# Altium integrated library NSC MiscPower.IntLib: 1417 symbols (part 12 of 39)
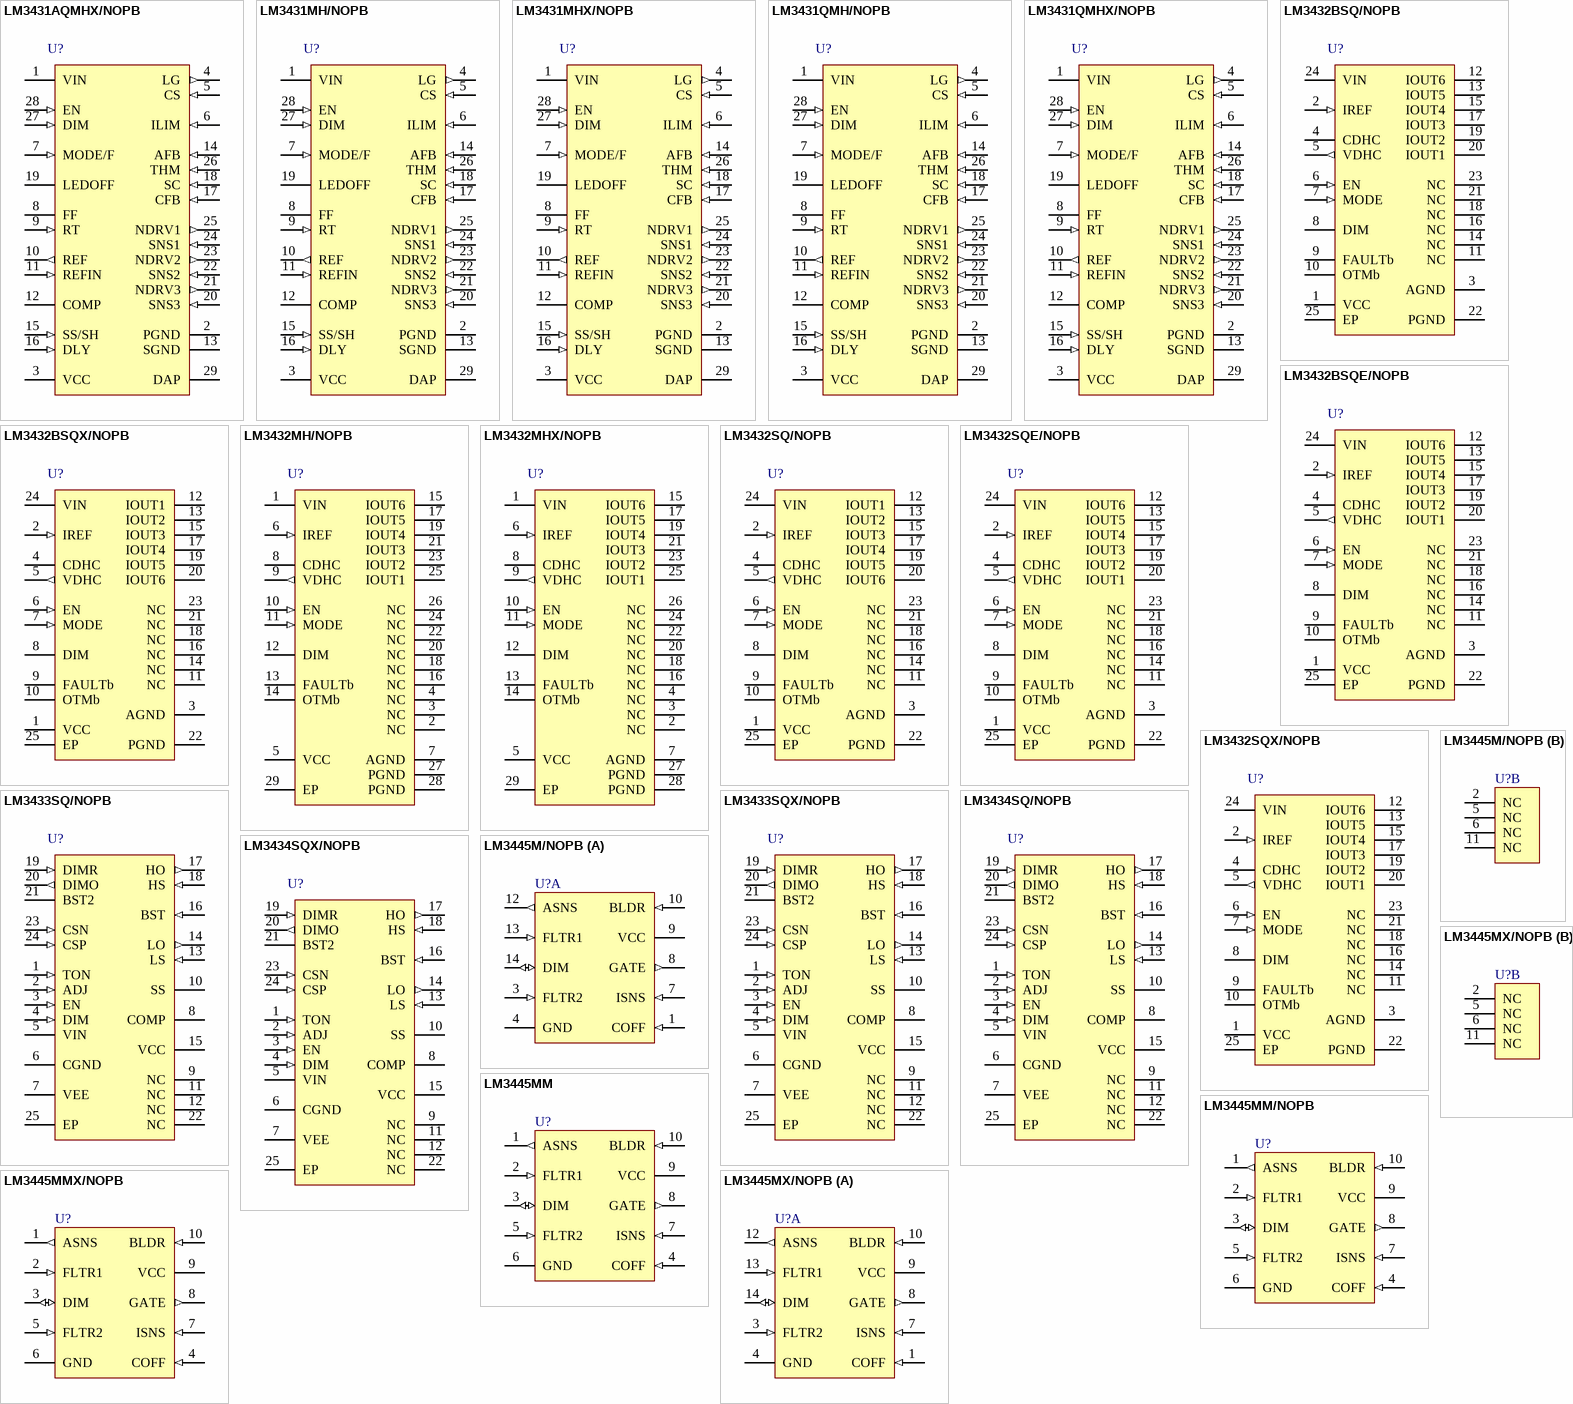
[diagram p62: symbols LM3431AQMHX/NOPB to LM3445MX/NOPB]

## LM3432SQ/NOPB
designator U?
6-Channel Current Regulator for LED Backlight Application, 24-pin LLP, Pb-Free; PartNumber: LM3432SQ/NOPB; Manufacturer: National Semiconductor; PackageTopMarking: NS*UZXYTT*L3432SQ; PowerWise: N; CompType: MiscPower; Published: 1-Mar-2010; DatasheetVersion: May-2008; PackageVersion: revA, Oct-2003; PackageReference: SQA24B; Publisher: Altium Limited; PackageDescription: LLP, Plastic, Quad, 5 x 4 x 0.8mm Body, 24 Lead, 0.5mm Pitch, No Pullback; Supplier 1: Digi-Key; Supplier Part Number 1: LM3432SQTR-ND; Supplier 2: Digi-Key; Supplier Part Number 2: LM3432SQCT-ND; Supplier 3: Digi-Key; Supplier Part Number 3: LM3432SQDKR-ND; Supplier 4: Farnell; Supplier Part Number 4: 1364447; RoHS: Y; PinCount: 24; Code_JEDEC: MO-220-WGHD-1; ComponentLink1Description: LM3432 Datasheet; ComponentLink1URL: http://www.national.com/ds/LM/LM3432.pdf; ComponentLink2Description: LM3432 Web Page; ComponentLink2URL: http://www.national.com/pf/LM/LM3432.html; ComponentLink3Description: SQA24B Package Page; ComponentLink3URL: http://www.national.com/packaging/folders/sqa24b.html
footprint SQA24B (QFN, 24-Leads, Body 5x4mm, Pitch 0.5mm, NSC Recommended)
pins: 1 VCC (power), 2 IREF (in), 3 AGND (power), 4 CDHC, 5 VDHC (out), 6 EN (in), 7 MODE (in), 8 DIM, 9 FAULTb (oc), 10 OTMb (oc), 11 NC, 12 IOUT1 (oc), 13 IOUT2 (oc), 14 NC, 15 IOUT3 (oc), 16 NC, 17 IOUT4 (oc), 18 NC, 19 IOUT5 (oc), 20 IOUT6 (oc), 21 NC, 22 PGND (power), 23 NC, 24 VIN (power), 25 EP (power)

## LM3432SQE/NOPB
designator U?
6-Channel Current Regulator for LED Backlight Application, 24-pin LLP, Pb-Free; PartNumber: LM3432SQE/NOPB; Manufacturer: National Semiconductor; PackageTopMarking: NS*UZXYTT*L3432SQ; PowerWise: N; CompType: MiscPower; Published: 1-Mar-2010; DatasheetVersion: May-2008; PackageVersion: revA, Oct-2003; PackageReference: SQA24B; Publisher: Altium Limited; PackageDescription: LLP, Plastic, Quad, 5 x 4 x 0.8mm Body, 24 Lead, 0.5mm Pitch, No Pullback; Supplier 1: Digi-Key; Supplier Part Number 1: LM3432SQE-ND; RoHS: Y; PinCount: 24; Code_JEDEC: MO-220-WGHD-1; ComponentLink1Description: LM3432 Datasheet; ComponentLink1URL: http://www.national.com/ds/LM/LM3432.pdf; ComponentLink2Description: LM3432 Web Page; ComponentLink2URL: http://www.national.com/pf/LM/LM3432.html; ComponentLink3Description: SQA24B Package Page; ComponentLink3URL: http://www.national.com/packaging/folders/sqa24b.html
footprint SQA24B (QFN, 24-Leads, Body 5x4mm, Pitch 0.5mm, NSC Recommended)
pins: 1 VCC (power), 2 IREF (in), 3 AGND (power), 4 CDHC, 5 VDHC (out), 6 EN (in), 7 MODE (in), 8 DIM, 9 FAULTb (oc), 10 OTMb (oc), 11 NC, 12 IOUT6 (oc), 13 IOUT5 (oc), 14 NC, 15 IOUT4 (oc), 16 NC, 17 IOUT3 (oc), 18 NC, 19 IOUT2 (oc), 20 IOUT1 (oc), 21 NC, 22 PGND (power), 23 NC, 24 VIN (power), 25 EP (power)

## LM3432SQX/NOPB
designator U?
6-Channel Current Regulator for LED Backlight Application, 24-pin LLP, Pb-Free; PartNumber: LM3432SQX/NOPB; Manufacturer: National Semiconductor; PackageTopMarking: NS*UZXYTT*L3432SQ; PowerWise: N; CompType: MiscPower; Published: 1-Mar-2010; DatasheetVersion: May-2008; PackageVersion: revA, Oct-2003; PackageReference: SQA24B; Publisher: Altium Limited; PackageDescription: LLP, Plastic, Quad, 5 x 4 x 0.8mm Body, 24 Lead, 0.5mm Pitch, No Pullback; Supplier 1: Digi-Key; Supplier Part Number 1: LM3432SQX-ND; RoHS: Y; PinCount: 24; Code_JEDEC: MO-220-WGHD-1; ComponentLink1Description: LM3432 Datasheet; ComponentLink1URL: http://www.national.com/ds/LM/LM3432.pdf; ComponentLink2Description: LM3432 Web Page; ComponentLink2URL: http://www.national.com/pf/LM/LM3432.html; ComponentLink3Description: SQA24B Package Page; ComponentLink3URL: http://www.national.com/packaging/folders/sqa24b.html
footprint SQA24B (QFN, 24-Leads, Body 5x4mm, Pitch 0.5mm, NSC Recommended)
pins: 1 VCC (power), 2 IREF (in), 3 AGND (power), 4 CDHC, 5 VDHC (out), 6 EN (in), 7 MODE (in), 8 DIM, 9 FAULTb (oc), 10 OTMb (oc), 11 NC, 12 IOUT6 (oc), 13 IOUT5 (oc), 14 NC, 15 IOUT4 (oc), 16 NC, 17 IOUT3 (oc), 18 NC, 19 IOUT2 (oc), 20 IOUT1 (oc), 21 NC, 22 PGND (power), 23 NC, 24 VIN (power), 25 EP (power)

## LM3433SQ/NOPB
designator U?
Common Anode Capable High Brightness LED Driver with High Frequency Dimming, 24-pin LLP, Pb-Free; PartNumber: LM3433SQ/NOPB; Manufacturer: National Semiconductor; PackageTopMarking: NS*UZXYTT*L3433SQ; PowerWise: Y; CompType: MiscPower; Published: 1-Mar-2010; DatasheetVersion: Mar-2008; PackageVersion: revB, Aug-2003; PackageReference: SQA24A; Publisher: Altium Limited; PackageDescription: LLP, Plastic, Quad, 4 x 4 x 0.8mm Body, 24 Lead, 0.5mm Pitch, No Pullback; Supplier 1: Digi-Key; Supplier Part Number 1: LM3433SQTR-ND; Supplier 2: Digi-Key; Supplier Part Number 2: LM3433SQCT-ND; Supplier 3: Digi-Key; Supplier Part Number 3: LM3433SQDKR-ND; Supplier 4: Farnell; Supplier Part Number 4: 1675315; RoHS: Y; PinCount: 24; Code_JEDEC: MO-220-WGGD-6; ComponentLink1Description: LM3433 Datasheet; ComponentLink1URL: http://www.national.com/ds/LM/LM3433.pdf; ComponentLink2Description: LM3433 Web Page; ComponentLink2URL: http://www.national.com/pf/LM/LM3433.html; ComponentLink3Description: SQA24A Package Page; ComponentLink3URL: http://www.national.com/packaging/folders/sqa24a.html
footprint SQA24A (QFN, 24-Leads, Body 4x4mm, Pitch 0.5mm, NSC Recommended)
pins: 1 TON (in), 2 ADJ (in), 3 EN (in), 4 DIM (in), 5 VIN (power), 6 CGND (power), 7 VEE (power), 8 COMP, 9 NC, 10 SS, 11 NC, 12 NC, 13 LS (in), 14 LO (out), 15 VCC (power), 16 BST (in), 17 HO (out), 18 HS (in), 19 DIMR (in), 20 DIMO (out), 21 BST2, 22 NC, 23 CSN (in), 24 CSP (in), 25 EP (power)

## LM3433SQX/NOPB
designator U?
Common Anode Capable High Brightness LED Driver with High Frequency Dimming, 24-pin LLP, Pb-Free; PartNumber: LM3433SQX/NOPB; Manufacturer: National Semiconductor; PackageTopMarking: NS*UZXYTT*L3433SQ; PowerWise: Y; CompType: MiscPower; Published: 1-Mar-2010; DatasheetVersion: Mar-2008; PackageVersion: revB, Aug-2003; PackageReference: SQA24A; Publisher: Altium Limited; PackageDescription: LLP, Plastic, Quad, 4 x 4 x 0.8mm Body, 24 Lead, 0.5mm Pitch, No Pullback; Supplier 1: Digi-Key; Supplier Part Number 1: LM3433SQX-ND; RoHS: Y; PinCount: 24; Code_JEDEC: MO-220-WGGD-6; ComponentLink1Description: LM3433 Datasheet; ComponentLink1URL: http://www.national.com/ds/LM/LM3433.pdf; ComponentLink2Description: LM3433 Web Page; ComponentLink2URL: http://www.national.com/pf/LM/LM3433.html; ComponentLink3Description: SQA24A Package Page; ComponentLink3URL: http://www.national.com/packaging/folders/sqa24a.html
footprint SQA24A (QFN, 24-Leads, Body 4x4mm, Pitch 0.5mm, NSC Recommended)
pins: 1 TON (in), 2 ADJ (in), 3 EN (in), 4 DIM (in), 5 VIN (power), 6 CGND (power), 7 VEE (power), 8 COMP, 9 NC, 10 SS, 11 NC, 12 NC, 13 LS (in), 14 LO (out), 15 VCC (power), 16 BST (in), 17 HO (out), 18 HS (in), 19 DIMR (in), 20 DIMO (out), 21 BST2, 22 NC, 23 CSN (in), 24 CSP (in), 25 EP (power)

## LM3434SQ/NOPB
designator U?
Common Anode Capable High Brightness LED Driver with High Frequency Dimming, 24 pin LLP; PartNumber: LM3434SQ/NOPB; Manufacturer: National Semiconductor; PackageTopMarking: NS*UZXYTT*L3434; PowerWise: Y; CompType: MiscPower; Published: 16-Nov-2010; DatasheetVersion: Aug-2010; PackageVersion: revB, Aug-2003; PackageReference: SQA24A; Publisher: Altium Limited; PackageDescription: LLP, Plastic, Quad, 4 x 4 x 0.8mm Body, 24 Lead, 0.5mm Pitch, No Pullback; Supplier 1: Digi-Key; Supplier Part Number 1: LM3434SQTR-ND; Supplier 2: Digi-Key; Supplier Part Number 2: LM3434SQCT-ND; Supplier 3: Digi-Key; Supplier Part Number 3: LM3434SQDKR-ND; Supplier 4: Farnell; Supplier Part Number 4: 1822985; RoHS: Y; PinCount: 24; Code_JEDEC: MO-220-WGGD-6; ComponentLink1Description: LM3434 Datasheet; ComponentLink1URL: http://www.national.com/ds/LM/LM3434.pdf; ComponentLink2Description: LM3434 Web Page; ComponentLink2URL: http://www.national.com/pf/LM/LM3434.html; ComponentLink3Description: SQA24A Package Page; ComponentLink3URL: http://www.national.com/packaging/folders/sqa24a.html
footprint SQA24A (QFN, 24-Leads, Body 4x4mm, Pitch 0.5mm, NSC Recommended)
pins: 1 TON (in), 2 ADJ (in), 3 EN (in), 4 DIM (in), 5 VIN (power), 6 CGND (power), 7 VEE (power), 8 COMP, 9 NC, 10 SS, 11 NC, 12 NC, 13 LS (in), 14 LO (out), 15 VCC (power), 16 BST (in), 17 HO (out), 18 HS (in), 19 DIMR (in), 20 DIMO (out), 21 BST2, 22 NC, 23 CSN (in), 24 CSP (in), 25 EP (power)

## LM3434SQX/NOPB
designator U?
Common Anode Capable High Brightness LED Driver with High Frequency Dimming, 24 pin LLP; PartNumber: LM3434SQX/NOPB; Manufacturer: National Semiconductor; PackageTopMarking: NS*UZXYTT*L3434; PowerWise: Y; CompType: MiscPower; Published: 16-Nov-2010; DatasheetVersion: Aug-2010; PackageVersion: revB, Aug-2003; PackageReference: SQA24A; Publisher: Altium Limited; PackageDescription: LLP, Plastic, Quad, 4 x 4 x 0.8mm Body, 24 Lead, 0.5mm Pitch, No Pullback; RoHS: Y; PinCount: 24; Code_JEDEC: MO-220-WGGD-6; ComponentLink1Description: LM3434 Datasheet; ComponentLink1URL: http://www.national.com/ds/LM/LM3434.pdf; ComponentLink2Description: LM3434 Web Page; ComponentLink2URL: http://www.national.com/pf/LM/LM3434.html; ComponentLink3Description: SQA24A Package Page; ComponentLink3URL: http://www.national.com/packaging/folders/sqa24a.html
footprint SQA24A (QFN, 24-Leads, Body 4x4mm, Pitch 0.5mm, NSC Recommended)
pins: 1 TON (in), 2 ADJ (in), 3 EN (in), 4 DIM (in), 5 VIN (power), 6 CGND (power), 7 VEE (power), 8 COMP, 9 NC, 10 SS, 11 NC, 12 NC, 13 LS (in), 14 LO (out), 15 VCC (power), 16 BST (in), 17 HO (out), 18 HS (in), 19 DIMR (in), 20 DIMO (out), 21 BST2, 22 NC, 23 CSN (in), 24 CSP (in), 25 EP (power)

## LM3445M/NOPB
designator U?
Triac Dimmable Offline LED Driver, 14-pin Narrow SOIC, Pb-Free; PartNumber: LM3445M/NOPB; Manufacturer: National Semiconductor; PackageTopMarking: NSUZXYTTE#*LM3445M; PowerWise: N; CompType: MiscPower; Published: 1-Mar-2010; DatasheetVersion: Feb-2010; PackageVersion: revJ, Jan-1996; PackageReference: M14A; Publisher: Altium Limited; PackageDescription: Molded Package S.O., .150in Wide, 14 Lead; Supplier 1: Digi-Key; Supplier Part Number 1: LM3445M-ND; RoHS: Y; PinCount: 14; Code_JEDEC: MS-012AB; Code_IPC: SOIC127P600-14; ComponentLink1Description: LM3445 Datasheet; ComponentLink1URL: http://www.national.com/ds/LM/LM3445.pdf; ComponentLink2Description: LM3445 Web Page; ComponentLink2URL: http://www.national.com/pf/LM/LM3445.html; ComponentLink3Description: M14A Package Page; ComponentLink3URL: http://www.national.com/packaging/folders/m14a.html
footprint M14A_N (SOIC, 14-Leads, Body 8.6x3.9mm, Pitch 1.27mm, IPC Medium Density)
footprint M14A_L (SOIC, 14-Leads, Body 8.6x3.9mm, Pitch 1.27mm, IPC High Density)
footprint M14A_M (SOIC, 14-Leads, Body 8.6x3.9mm, Pitch 1.27mm, IPC Low Density)
part A pins: 1 COFF (in), 3 FLTR2 (in), 4 GND (power), 7 ISNS (in), 8 GATE (out), 9 VCC (power), 10 BLDR (in), 12 ASNS (out), 13 FLTR1 (in), 14 DIM (io)
part B pins: 2 NC, 5 NC, 6 NC, 11 NC

## LM3445MM
designator U?
Triac Dimmable Offline LED Driver, PowerWise, 10-pin MSOP; PartNumber: LM3445MM; Manufacturer: National Semiconductor; PackageTopMarking: ZXTT*SULB; PowerWise: Y; CompType: MiscPower; Published: 29-May-2009; DatasheetVersion: Feb-2010; PackageVersion: revB, Jul-2003; PackageReference: MUB10A; Publisher: Altium Limited; PackageDescription: Mini-SO, Molded, .118 x .118 x .034in Body, 10 Lead, .0197in Pitch; Supplier 1: Farnell; Supplier Part Number 1: 1699377; RoHS: Y; PinCount: 10; Code_JEDEC: MO-187-BA; ComponentLink1Description: LM3445 Datasheet; ComponentLink1URL: http://www.national.com/ds/LM/LM3445.pdf; ComponentLink2Description: LM3445 Web Page; ComponentLink2URL: http://www.national.com/pf/LM/LM3445.html; ComponentLink3Description: MUB10A Package Page; ComponentLink3URL: http://www.national.com/packaging/folders/mub10a.html
footprint MUB10A_N (TSSOP, 10-Leads, Body 3x3mm, Pitch 0.5mm, IPC Medium Density)
footprint MUB10A_L (TSSOP, 10-Leads, Body 3x3mm, Pitch 0.5mm, IPC High Density)
footprint MUB10A_M (TSSOP, 10-Leads, Body 3x3mm, Pitch 0.5mm, IPC Low Density)
pins: 1 ASNS (out), 2 FLTR1 (in), 3 DIM (io), 4 COFF (in), 5 FLTR2 (in), 6 GND (power), 7 ISNS (in), 8 GATE (out), 9 VCC (power), 10 BLDR (in)

## LM3445MM/NOPB
designator U?
Triac Dimmable Offline LED Driver, 10-pin MSOP, Pb-Free; PartNumber: LM3445MM/NOPB; Manufacturer: National Semiconductor; PackageTopMarking: ZXTT*SULB; PowerWise: Y; CompType: MiscPower; Published: 1-Mar-2010; DatasheetVersion: Feb-2010; PackageVersion: revB, Jul-2003; PackageReference: MUB10A; Publisher: Altium Limited; PackageDescription: Mini-SO, Molded, .118 x .118 x .034in Body, 10 Lead, .0197in Pitch; Supplier 1: Digi-Key; Supplier Part Number 1: LM3445MMTR-ND; Supplier 2: Digi-Key; Supplier Part Number 2: LM3445MMCT-ND; Supplier 3: Digi-Key; Supplier Part Number 3: LM3445MMDKR-ND; Supplier 4: Farnell; Supplier Part Number 4: 1696596; RoHS: Y; PinCount: 10; Code_JEDEC: MO-187-BA; ComponentLink1Description: LM3445 Datasheet; ComponentLink1URL: http://www.national.com/ds/LM/LM3445.pdf; ComponentLink2Description: LM3445 Web Page; ComponentLink2URL: http://www.national.com/pf/LM/LM3445.html; ComponentLink3Description: MUB10A Package Page; ComponentLink3URL: http://www.national.com/packaging/folders/mub10a.html
footprint MUB10A_N (TSSOP, 10-Leads, Body 3x3mm, Pitch 0.5mm, IPC Medium Density)
footprint MUB10A_L (TSSOP, 10-Leads, Body 3x3mm, Pitch 0.5mm, IPC High Density)
footprint MUB10A_M (TSSOP, 10-Leads, Body 3x3mm, Pitch 0.5mm, IPC Low Density)
pins: 1 ASNS (out), 2 FLTR1 (in), 3 DIM (io), 4 COFF (in), 5 FLTR2 (in), 6 GND (power), 7 ISNS (in), 8 GATE (out), 9 VCC (power), 10 BLDR (in)

## LM3445MMX/NOPB
designator U?
Triac Dimmable Offline LED Driver, 10-pin MSOP, Pb-Free; PartNumber: LM3445MMX/NOPB; Manufacturer: National Semiconductor; PackageTopMarking: ZXTT*SULB; PowerWise: Y; CompType: MiscPower; Published: 1-Mar-2010; DatasheetVersion: Feb-2010; PackageVersion: revB, Jul-2003; PackageReference: MUB10A; Publisher: Altium Limited; PackageDescription: Mini-SO, Molded, .118 x .118 x .034in Body, 10 Lead, .0197in Pitch; Supplier 1: Digi-Key; Supplier Part Number 1: LM3445MMX-ND; RoHS: Y; PinCount: 10; Code_JEDEC: MO-187-BA; ComponentLink1Description: LM3445 Datasheet; ComponentLink1URL: http://www.national.com/ds/LM/LM3445.pdf; ComponentLink2Description: LM3445 Web Page; ComponentLink2URL: http://www.national.com/pf/LM/LM3445.html; ComponentLink3Description: MUB10A Package Page; ComponentLink3URL: http://www.national.com/packaging/folders/mub10a.html
footprint MUB10A_N (TSSOP, 10-Leads, Body 3x3mm, Pitch 0.5mm, IPC Medium Density)
footprint MUB10A_L (TSSOP, 10-Leads, Body 3x3mm, Pitch 0.5mm, IPC High Density)
footprint MUB10A_M (TSSOP, 10-Leads, Body 3x3mm, Pitch 0.5mm, IPC Low Density)
pins: 1 ASNS (out), 2 FLTR1 (in), 3 DIM (io), 4 COFF (in), 5 FLTR2 (in), 6 GND (power), 7 ISNS (in), 8 GATE (out), 9 VCC (power), 10 BLDR (in)

## LM3445MX/NOPB
designator U?
Triac Dimmable Offline LED Driver, 14-pin Narrow SOIC, Pb-Free; PartNumber: LM3445MX/NOPB; Manufacturer: National Semiconductor; PackageTopMarking: NSUZXYTTE#*LM3445M; PowerWise: N; CompType: MiscPower; Published: 1-Mar-2010; DatasheetVersion: Feb-2010; PackageVersion: revJ, Jan-1996; PackageReference: M14A; Publisher: Altium Limited; PackageDescription: Molded Package S.O., .150in Wide, 14 Lead; Supplier 1: Digi-Key; Supplier Part Number 1: LM3445MX-ND; RoHS: Y; PinCount: 14; Code_JEDEC: MS-012AB; Code_IPC: SOIC127P600-14; ComponentLink1Description: LM3445 Datasheet; ComponentLink1URL: http://www.national.com/ds/LM/LM3445.pdf; ComponentLink2Description: LM3445 Web Page; ComponentLink2URL: http://www.national.com/pf/LM/LM3445.html; ComponentLink3Description: M14A Package Page; ComponentLink3URL: http://www.national.com/packaging/folders/m14a.html
footprint M14A_N (SOIC, 14-Leads, Body 8.6x3.9mm, Pitch 1.27mm, IPC Medium Density)
footprint M14A_L (SOIC, 14-Leads, Body 8.6x3.9mm, Pitch 1.27mm, IPC High Density)
footprint M14A_M (SOIC, 14-Leads, Body 8.6x3.9mm, Pitch 1.27mm, IPC Low Density)
part A pins: 1 COFF (in), 3 FLTR2 (in), 4 GND (power), 7 ISNS (in), 8 GATE (out), 9 VCC (power), 10 BLDR (in), 12 ASNS (out), 13 FLTR1 (in), 14 DIM (io)
part B pins: 2 NC, 5 NC, 6 NC, 11 NC

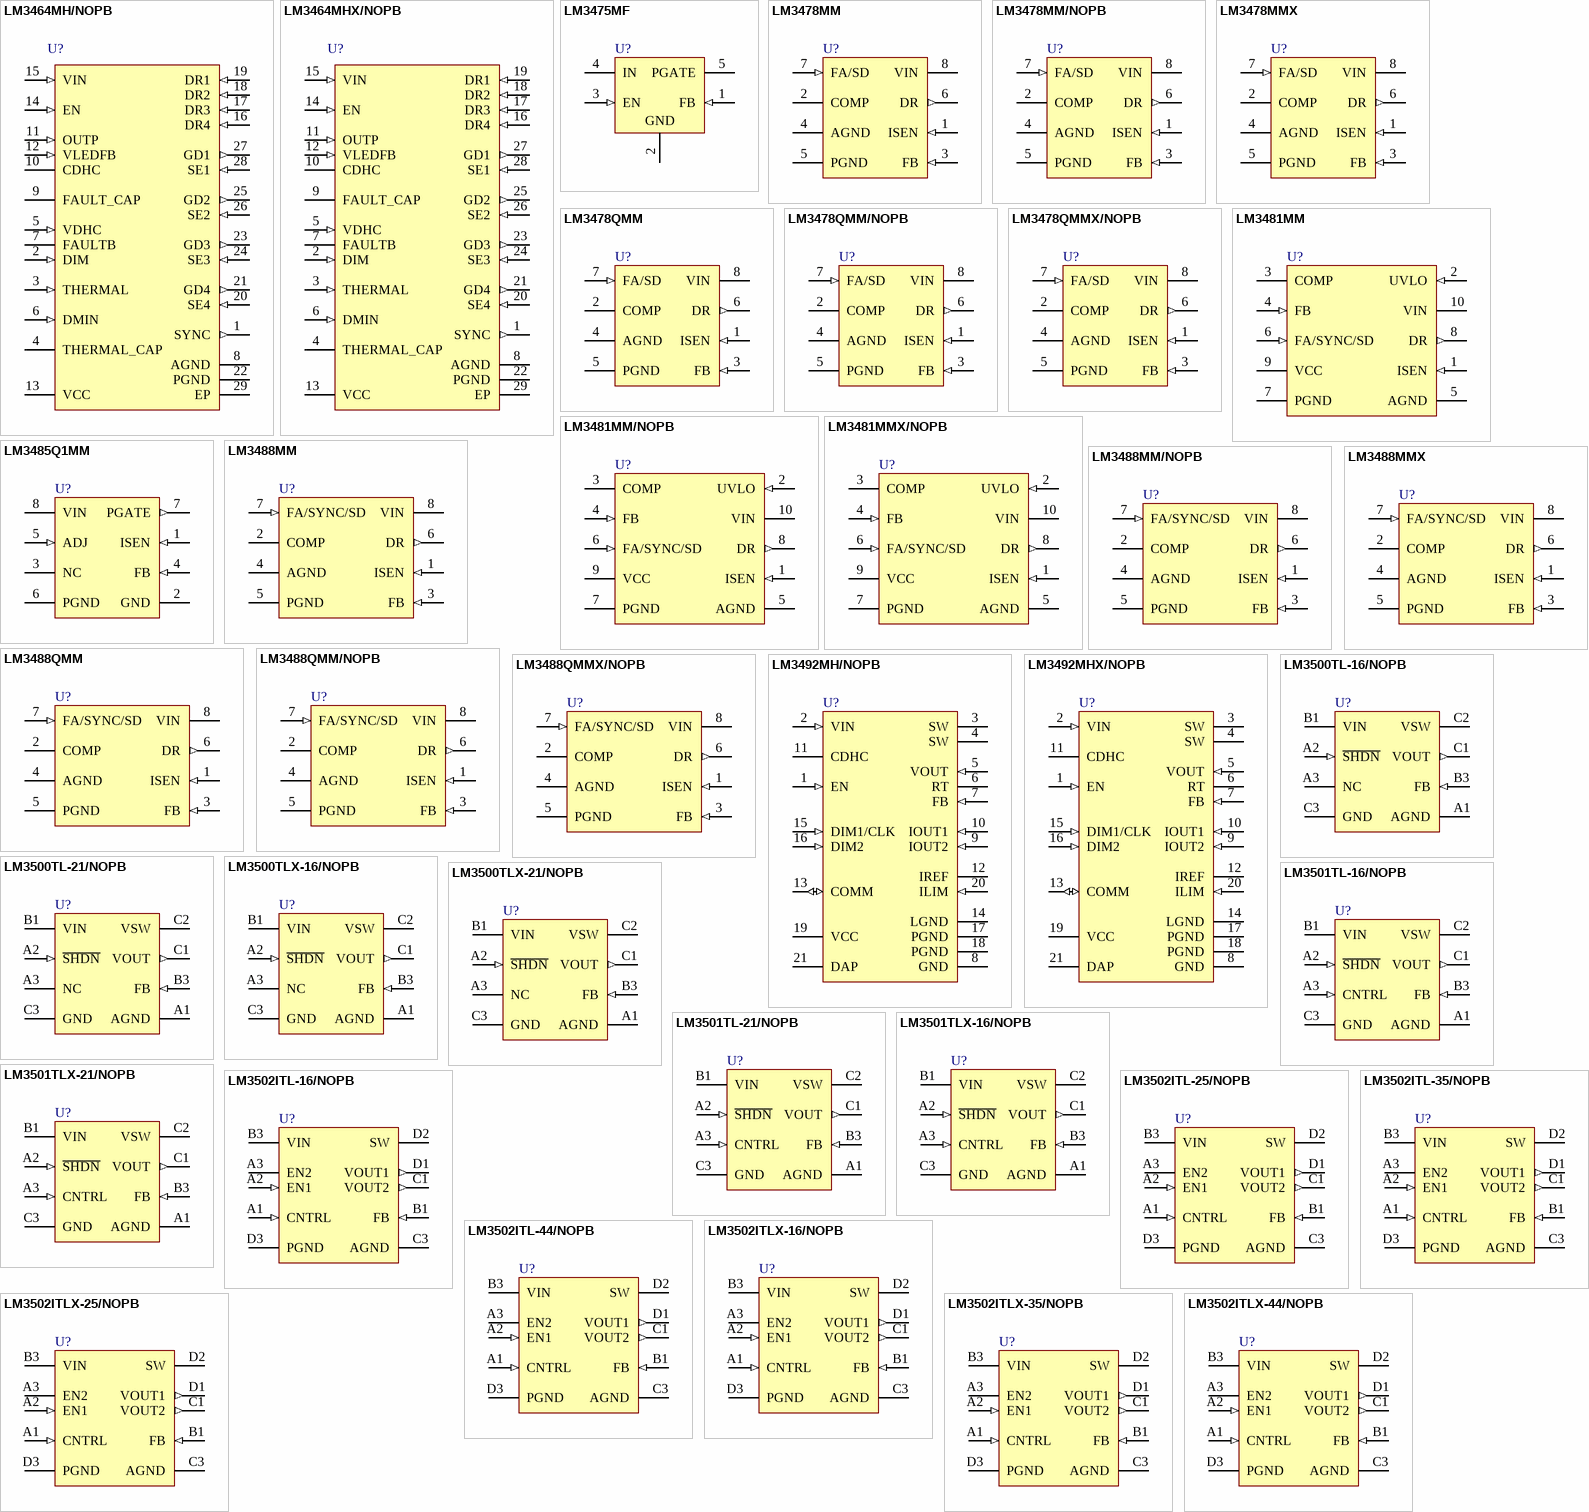
[diagram p13: symbols LM3464MH/NOPB to LM3502ITLX-44/NOPB]

## LM3464MH/NOPB
designator U?
LED Driver with Dynamic Headroom Control and Thermal Control Interfaces, 28 pin TSSOP EXP PAD; PartNumber: LM3464MH/NOPB; Manufacturer: National Semiconductor; PackageTopMarking: NSUZXYTTE#*LM3464MH; PowerWise: Y; CompType: MiscPower; Published: 16-Nov-2010; DatasheetVersion: Jul-2010; PackageVersion: revD, Oct-2003; PackageReference: MXA28A; Publisher: Altium Limited; PackageDescription: Molded TSSOP, Jedec, 9.7 x 4.4 x 0.9mm Body, 28 Lead, 0.65mm Pitch, Exposed Pad; Supplier 1: Digi-Key; Supplier Part Number 1: LM3464MH/NOPB-ND; RoHS: Y; PinCount: 28; Code_JEDEC: MO-153-AET; ComponentLink1Description: LM3464 Datasheet; ComponentLink1URL: http://www.national.com/ds/LM/LM3464.pdf; ComponentLink2Description: LM3464 Web Page; ComponentLink2URL: http://www.national.com/pf/LM/LM3464.html; ComponentLink3Description: MXA28A Package Page; ComponentLink3URL: http://www.national.com/packaging/folders/mxa28a.html
footprint MXA28A_N (TSOP, 28-Leads, Body 9.7x4.4mm, Pitch 0.65mm, Exposed Pad, IPC Medium Density)
footprint MXA28A_L (TSOP, 28-Leads, Body 9.7x4.4mm, Pitch 0.65mm, Exposed Pad, IPC High Density)
footprint MXA28A_M (TSOP, 28-Leads, Body 9.7x4.4mm, Pitch 0.65mm, Exposed Pad, IPC Low Density)
pins: 1 SYNC (out), 2 DIM (in), 3 THERMAL (in), 4 THERMAL_CAP, 5 VDHC (in), 6 DMIN (in), 7 FAULTB (oc), 8 AGND (power), 9 FAULT_CAP, 10 CDHC, 11 OUTP (in), 12 VLEDFB (in), 13 VCC (power), 14 EN (in), 15 VIN (in), 16 DR4 (in), 17 DR3 (in), 18 DR2 (in), 19 DR1 (in), 20 SE4 (in), 21 GD4 (out), 22 PGND (power), 23 GD3 (out), 24 SE3 (in), 25 GD2 (out), 26 SE2 (in), 27 GD1 (out), 28 SE1 (in), 29 EP (power)

## LM3464MHX/NOPB
designator U?
LED Driver with Dynamic Headroom Control and Thermal Control Interfaces, 28 pin TSSOP EXP PAD; PartNumber: LM3464MHX/NOPB; Manufacturer: National Semiconductor; PackageTopMarking: NSUZXYTTE#*LM3464MH; PowerWise: Y; CompType: MiscPower; Published: 16-Nov-2010; DatasheetVersion: Jul-2010; PackageVersion: revD, Oct-2003; PackageReference: MXA28A; Publisher: Altium Limited; PackageDescription: Molded TSSOP, Jedec, 9.7 x 4.4 x 0.9mm Body, 28 Lead, 0.65mm Pitch, Exposed Pad; Supplier 1: Digi-Key; Supplier Part Number 1: LM3464MHX/NOPB-ND; RoHS: Y; PinCount: 28; Code_JEDEC: MO-153-AET; ComponentLink1Description: LM3464 Datasheet; ComponentLink1URL: http://www.national.com/ds/LM/LM3464.pdf; ComponentLink2Description: LM3464 Web Page; ComponentLink2URL: http://www.national.com/pf/LM/LM3464.html; ComponentLink3Description: MXA28A Package Page; ComponentLink3URL: http://www.national.com/packaging/folders/mxa28a.html
footprint MXA28A_N (TSOP, 28-Leads, Body 9.7x4.4mm, Pitch 0.65mm, Exposed Pad, IPC Medium Density)
footprint MXA28A_L (TSOP, 28-Leads, Body 9.7x4.4mm, Pitch 0.65mm, Exposed Pad, IPC High Density)
footprint MXA28A_M (TSOP, 28-Leads, Body 9.7x4.4mm, Pitch 0.65mm, Exposed Pad, IPC Low Density)
pins: 1 SYNC (out), 2 DIM (in), 3 THERMAL (in), 4 THERMAL_CAP, 5 VDHC (in), 6 DMIN (in), 7 FAULTB (oc), 8 AGND (power), 9 FAULT_CAP, 10 CDHC, 11 OUTP (in), 12 VLEDFB (in), 13 VCC (power), 14 EN (in), 15 VIN (in), 16 DR4 (in), 17 DR3 (in), 18 DR2 (in), 19 DR1 (in), 20 SE4 (in), 21 GD4 (out), 22 PGND (power), 23 GD3 (out), 24 SE3 (in), 25 GD2 (out), 26 SE2 (in), 27 GD1 (out), 28 SE1 (in), 29 EP (power)

## LM3475MF
designator U?
Hysteretic PFET Buck Controller, 5-pin SOT-23; PartNumber: LM3475MF; Manufacturer: National Semiconductor; PackageTopMarking: S65B*XTT; PowerWise: N; CompType: MiscPower; Published: 4-Dec-2008; DatasheetVersion: Jan-2005; PackageVersion: revD, Aug-2008; PackageReference: MF05A; Publisher: Altium Limited; PackageDescription: Molded SOT-23, .115 x .063 x .040 in Body, 5 Lead, .0375 in Pitch; Supplier 1: Farnell; Supplier Part Number 1: 1008244; RoHS: N; PinCount: 5; ComponentLink1Description: LM3475 Datasheet; ComponentLink1URL: http://www.national.com/ds/LM/LM3475.pdf; ComponentLink2Description: LM3475 Web Page; ComponentLink2URL: http://www.national.com/pf/LM/LM3475.html; ComponentLink3Description: MF05A Package Page; ComponentLink3URL: http://www.national.com/packaging/folders/mf05a.html
footprint MF05A_N (SOT23, 5-Leads, Body 2.9x1.6mm, Pitch 0.95mm, Lead Span 2.8mm, IPC Medium Density)
footprint MF05A_L (SOT23, 5-Leads, Body 2.9x1.6mm, Pitch 0.95mm, Lead Span 2.8mm, IPC High Density)
footprint MF05A_M (SOT23, 5-Leads, Body 2.9x1.6mm, Pitch 0.95mm, Lead Span 2.8mm, IPC Low Density)
pins: 1 FB (in), 2 GND (power), 3 EN (in), 4 IN (power), 5 PGATE (power)

## LM3478MM
designator U?
High Efficiency Low-Side N-Channel Controller for Switching Regulator, 8-pin MSOP; PartNumber: LM3478MM; Manufacturer: National Semiconductor; PackageTopMarking: ZXTT*S14B; PowerWise: N; CompType: MiscPower; Published: 4-Dec-2008; DatasheetVersion: Mar-2009; PackageVersion: revF, Apr-2008; PackageReference: MUA08A; Publisher: Altium Limited; PackageDescription: MINI SOIC, .118 x .118 x .034in, 8 Lead, .0256in Pitch; Supplier 1: Farnell; Supplier Part Number 1: 1312568; RoHS: N; PinCount: 8; Code_JEDEC: MO-187-AA; ComponentLink1Description: LM3478 Datasheet; ComponentLink1URL: http://www.national.com/ds/LM/LM3478.pdf; ComponentLink2Description: LM3478 Web Page; ComponentLink2URL: http://www.national.com/pf/LM/LM3478.html; ComponentLink3Description: MUA08A Package Page; ComponentLink3URL: http://www.national.com/packaging/folders/mua08a.html
footprint MUA08A_N (TSOP, 8-Leads, Body 3x3mm, Pitch 0.65mm, IPC Medium Density)
footprint MUA08A_L (TSOP, 8-Leads, Body 3x3mm, Pitch 0.65mm, IPC High Density)
footprint MUA08A_M (TSOP, 8-Leads, Body 3x3mm, Pitch 0.65mm, IPC Low Density)
pins: 1 ISEN (in), 2 COMP, 3 FB (in), 4 AGND (power), 5 PGND (power), 6 DR (out), 7 FA/SD (in), 8 VIN (power)

## LM3478MM/NOPB
designator U?
High Efficiency Low-Side N-Channel Controller for Switching Regulator, 8-pin MSOP, Pb-Free; PartNumber: LM3478MM/NOPB; Manufacturer: National Semiconductor; PackageTopMarking: ZXTT*S14B; PowerWise: N; CompType: MiscPower; Published: 1-Mar-2010; DatasheetVersion: Mar-2009; PackageVersion: revF, Apr-2008; PackageReference: MUA08A; Publisher: Altium Limited; PackageDescription: MINI SOIC, .118 x .118 x .034in, 8 Lead, .0256in Pitch; Supplier 1: Digi-Key; Supplier Part Number 1: LM3478MMTR-ND; Supplier 2: Digi-Key; Supplier Part Number 2: LM3478MMCT-ND; Supplier 3: Digi-Key; Supplier Part Number 3: LM3478MMDKR-ND; Supplier 4: Farnell; Supplier Part Number 4: 1469250; RoHS: Y; PinCount: 8; Code_JEDEC: MO-187-AA; ComponentLink1Description: LM3478 Datasheet; ComponentLink1URL: http://www.national.com/ds/LM/LM3478.pdf; ComponentLink2Description: LM3478 Web Page; ComponentLink2URL: http://www.national.com/pf/LM/LM3478.html; ComponentLink3Description: MUA08A Package Page; ComponentLink3URL: http://www.national.com/packaging/folders/mua08a.html
footprint MUA08A_N (TSOP, 8-Leads, Body 3x3mm, Pitch 0.65mm, IPC Medium Density)
footprint MUA08A_L (TSOP, 8-Leads, Body 3x3mm, Pitch 0.65mm, IPC High Density)
footprint MUA08A_M (TSOP, 8-Leads, Body 3x3mm, Pitch 0.65mm, IPC Low Density)
pins: 1 ISEN (in), 2 COMP, 3 FB (in), 4 AGND (power), 5 PGND (power), 6 DR (out), 7 FA/SD (in), 8 VIN (power)

## LM3478MMX
designator U?
High Efficiency Low-Side N-Channel Controller for Switching Regulator, 8-pin MSOP; PartNumber: LM3478MMX; Manufacturer: National Semiconductor; PackageTopMarking: ZXTT*S14B; PowerWise: N; CompType: MiscPower; Published: 1-Mar-2010; DatasheetVersion: Mar-2009; PackageVersion: revF, Apr-2008; PackageReference: MUA08A; Publisher: Altium Limited; PackageDescription: MINI SOIC, .118 x .118 x .034in, 8 Lead, .0256in Pitch; RoHS: N; PinCount: 8; Code_JEDEC: MO-187-AA; ComponentLink1Description: LM3478 Datasheet; ComponentLink1URL: http://www.national.com/ds/LM/LM3478.pdf; ComponentLink2Description: LM3478 Web Page; ComponentLink2URL: http://www.national.com/pf/LM/LM3478.html; ComponentLink3Description: MUA08A Package Page; ComponentLink3URL: http://www.national.com/packaging/folders/mua08a.html
footprint MUA08A_N (TSOP, 8-Leads, Body 3x3mm, Pitch 0.65mm, IPC Medium Density)
footprint MUA08A_L (TSOP, 8-Leads, Body 3x3mm, Pitch 0.65mm, IPC High Density)
footprint MUA08A_M (TSOP, 8-Leads, Body 3x3mm, Pitch 0.65mm, IPC Low Density)
pins: 1 ISEN (in), 2 COMP, 3 FB (in), 4 AGND (power), 5 PGND (power), 6 DR (out), 7 FA/SD (in), 8 VIN (power)

## LM3478QMM
designator U?
High Efficiency Low-Side N-Channel Controller for Switching Regulator, Automotive Grade 1, 8-pin MSOP; PartNumber: LM3478QMM; Manufacturer: National Semiconductor; PackageTopMarking: ZXTT*SSFB; PowerWise: N; CompType: MiscPower; Published: 29-May-2009; DatasheetVersion: Mar-2009; PackageVersion: revF, Apr-2008; PackageReference: MUA08A; Publisher: Altium Limited; PackageDescription: MINI SOIC, .118 x .118 x .034in, 8 Lead, .0256in Pitch; RoHS: Y; PinCount: 8; Code_JEDEC: MO-187-AA; ComponentLink1Description: LM3478 Datasheet; ComponentLink1URL: http://www.national.com/ds/LM/LM3478.pdf; ComponentLink2Description: LM3478 Web Page; ComponentLink2URL: http://www.national.com/mpf/LM/LM3478Q.html; ComponentLink3Description: MUA08A Package Page; ComponentLink3URL: http://www.national.com/packaging/folders/mua08a.html
footprint MUA08A_N (TSOP, 8-Leads, Body 3x3mm, Pitch 0.65mm, IPC Medium Density)
footprint MUA08A_L (TSOP, 8-Leads, Body 3x3mm, Pitch 0.65mm, IPC High Density)
footprint MUA08A_M (TSOP, 8-Leads, Body 3x3mm, Pitch 0.65mm, IPC Low Density)
pins: 1 ISEN (in), 2 COMP, 3 FB (in), 4 AGND (power), 5 PGND (power), 6 DR (out), 7 FA/SD (in), 8 VIN (power)

## LM3478QMM/NOPB
designator U?
High Efficiency Low-Side N-Channel Controller for Switching Regulator, 8-pin MSOP, Pb-Free; PartNumber: LM3478QMM/NOPB; Manufacturer: National Semiconductor; PackageTopMarking: ZXTT*SSFB; PowerWise: N; CompType: MiscPower; Published: 1-Mar-2010; DatasheetVersion: Mar-2009; PackageVersion: revF, Apr-2008; PackageReference: MUA08A; Publisher: Altium Limited; PackageDescription: MINI SOIC, .118 x .118 x .034in, 8 Lead, .0256in Pitch; Supplier 1: Digi-Key; Supplier Part Number 1: LM3478QMMTR-ND; Supplier 2: Digi-Key; Supplier Part Number 2: LM3478QMMCT-ND; Supplier 3: Digi-Key; Supplier Part Number 3: LM3478QMMDKR-ND; RoHS: Y; PinCount: 8; Code_JEDEC: MO-187-AA; ComponentLink1Description: LM3478Q Datasheet; ComponentLink1URL: http://www.national.com/ds/LM/LM3478.pdf; ComponentLink2Description: LM3478Q Web Page; ComponentLink2URL: http://www.national.com/pf/LM/LM3478Q.html; ComponentLink3Description: MUA08A Package Page; ComponentLink3URL: http://www.national.com/packaging/folders/mua08a.html
footprint MUA08A_N (TSOP, 8-Leads, Body 3x3mm, Pitch 0.65mm, IPC Medium Density)
footprint MUA08A_L (TSOP, 8-Leads, Body 3x3mm, Pitch 0.65mm, IPC High Density)
footprint MUA08A_M (TSOP, 8-Leads, Body 3x3mm, Pitch 0.65mm, IPC Low Density)
pins: 1 ISEN (in), 2 COMP, 3 FB (in), 4 AGND (power), 5 PGND (power), 6 DR (out), 7 FA/SD (in), 8 VIN (power)

## LM3478QMMX/NOPB
designator U?
High Efficiency Low-Side N-Channel Controller for Switching Regulator, 8-pin MSOP, Pb-Free; PartNumber: LM3478QMMX/NOPB; Manufacturer: National Semiconductor; PackageTopMarking: ZXTT*SSFB; PowerWise: N; CompType: MiscPower; Published: 1-Mar-2010; DatasheetVersion: Mar-2009; PackageVersion: revF, Apr-2008; PackageReference: MUA08A; Publisher: Altium Limited; PackageDescription: MINI SOIC, .118 x .118 x .034in, 8 Lead, .0256in Pitch; Supplier 1: Digi-Key; Supplier Part Number 1: LM3478QMMX-ND; RoHS: Y; PinCount: 8; Code_JEDEC: MO-187-AA; ComponentLink1Description: LM3478Q Datasheet; ComponentLink1URL: http://www.national.com/ds/LM/LM3478.pdf; ComponentLink2Description: LM3478Q Web Page; ComponentLink2URL: http://www.national.com/pf/LM/LM3478Q.html; ComponentLink3Description: MUA08A Package Page; ComponentLink3URL: http://www.national.com/packaging/folders/mua08a.html
footprint MUA08A_N (TSOP, 8-Leads, Body 3x3mm, Pitch 0.65mm, IPC Medium Density)
footprint MUA08A_L (TSOP, 8-Leads, Body 3x3mm, Pitch 0.65mm, IPC High Density)
footprint MUA08A_M (TSOP, 8-Leads, Body 3x3mm, Pitch 0.65mm, IPC Low Density)
pins: 1 ISEN (in), 2 COMP, 3 FB (in), 4 AGND (power), 5 PGND (power), 6 DR (out), 7 FA/SD (in), 8 VIN (power)

## LM3481MM
designator U?
High Efficiency Low-Side N-Channel Controller for Switching Regulators, 10-pin MSOP; PartNumber: LM3481MM; Manufacturer: National Semiconductor; PackageTopMarking: ZXTT*SJPB; PowerWise: N; CompType: MiscPower; Published: 4-Dec-2008; DatasheetVersion: Nov-2007; PackageVersion: revB, Jul-2003; PackageReference: MUB10A; Publisher: Altium Limited; PackageDescription: Mini-SO, Molded, .118 x .118 x .034in Body, 10 Lead, .0197in Pitch; Supplier 1: Farnell; Supplier Part Number 1: 1798320; RoHS: Y; PinCount: 10; Code_JEDEC: MO-187-BA; ComponentLink1Description: LM3481 Datasheet; ComponentLink1URL: http://www.national.com/ds/LM/LM3481.pdf; ComponentLink2Description: LM3481 Web Page; ComponentLink2URL: http://www.national.com/pf/LM/LM3481.html; ComponentLink3Description: MUB10A Package Page; ComponentLink3URL: http://www.national.com/packaging/folders/mub10a.html
footprint MUB10A_N (TSSOP, 10-Leads, Body 3x3mm, Pitch 0.5mm, IPC Medium Density)
footprint MUB10A_L (TSSOP, 10-Leads, Body 3x3mm, Pitch 0.5mm, IPC High Density)
footprint MUB10A_M (TSSOP, 10-Leads, Body 3x3mm, Pitch 0.5mm, IPC Low Density)
pins: 1 ISEN (in), 2 UVLO (in), 3 COMP, 4 FB (in), 5 AGND (power), 6 FA/SYNC/SD (in), 7 PGND (power), 8 DR (out), 9 VCC (power), 10 VIN (power)

## LM3481MM/NOPB
designator U?
High Efficiency Low-Side N-Channel Controller for Switching Regulators, 10-pin MSOP, Pb-Free; PartNumber: LM3481MM/NOPB; Manufacturer: National Semiconductor; PackageTopMarking: ZXTT*SJPB; PowerWise: N; CompType: MiscPower; Published: 1-Mar-2010; DatasheetVersion: Nov-2007; PackageVersion: revB, Jul-2003; PackageReference: MUB10A; Publisher: Altium Limited; PackageDescription: Mini-SO, Molded, .118 x .118 x .034in Body, 10 Lead, .0197in Pitch; Supplier 1: Digi-Key; Supplier Part Number 1: LM3481MMTR-ND; Supplier 2: Digi-Key; Supplier Part Number 2: LM3481MMCT-ND; Supplier 3: Digi-Key; Supplier Part Number 3: LM3481MMDKR-ND; Supplier 4: Farnell; Supplier Part Number 4: 1694644; RoHS: Y; PinCount: 10; Code_JEDEC: MO-187-BA; ComponentLink1Description: LM3481 Datasheet; ComponentLink1URL: http://www.national.com/ds/LM/LM3481.pdf; ComponentLink2Description: LM3481 Web Page; ComponentLink2URL: http://www.national.com/pf/LM/LM3481.html; ComponentLink3Description: MUB10A Package Page; ComponentLink3URL: http://www.national.com/packaging/folders/mub10a.html
footprint MUB10A_N (TSSOP, 10-Leads, Body 3x3mm, Pitch 0.5mm, IPC Medium Density)
footprint MUB10A_L (TSSOP, 10-Leads, Body 3x3mm, Pitch 0.5mm, IPC High Density)
footprint MUB10A_M (TSSOP, 10-Leads, Body 3x3mm, Pitch 0.5mm, IPC Low Density)
pins: 1 ISEN (in), 2 UVLO (in), 3 COMP, 4 FB (in), 5 AGND (power), 6 FA/SYNC/SD (in), 7 PGND (power), 8 DR (out), 9 VCC (power), 10 VIN (power)

## LM3481MMX/NOPB
designator U?
High Efficiency Low-Side N-Channel Controller for Switching Regulators, 10-pin MSOP, Pb-Free; PartNumber: LM3481MMX/NOPB; Manufacturer: National Semiconductor; PackageTopMarking: ZXTT*SJPB; PowerWise: N; CompType: MiscPower; Published: 1-Mar-2010; DatasheetVersion: Nov-2007; PackageVersion: revB, Jul-2003; PackageReference: MUB10A; Publisher: Altium Limited; PackageDescription: Mini-SO, Molded, .118 x .118 x .034in Body, 10 Lead, .0197in Pitch; Supplier 1: Digi-Key; Supplier Part Number 1: LM3481MMX-ND; RoHS: Y; PinCount: 10; Code_JEDEC: MO-187-BA; ComponentLink1Description: LM3481 Datasheet; ComponentLink1URL: http://www.national.com/ds/LM/LM3481.pdf; ComponentLink2Description: LM3481 Web Page; ComponentLink2URL: http://www.national.com/pf/LM/LM3481.html; ComponentLink3Description: MUB10A Package Page; ComponentLink3URL: http://www.national.com/packaging/folders/mub10a.html
footprint MUB10A_N (TSSOP, 10-Leads, Body 3x3mm, Pitch 0.5mm, IPC Medium Density)
footprint MUB10A_L (TSSOP, 10-Leads, Body 3x3mm, Pitch 0.5mm, IPC High Density)
footprint MUB10A_M (TSSOP, 10-Leads, Body 3x3mm, Pitch 0.5mm, IPC Low Density)
pins: 1 ISEN (in), 2 UVLO (in), 3 COMP, 4 FB (in), 5 AGND (power), 6 FA/SYNC/SD (in), 7 PGND (power), 8 DR (out), 9 VCC (power), 10 VIN (power)

## LM3485Q1MM
designator U?
Hysteretic PFET Buck Controller, Automotive Grade 1, 8-pin MSOP; PartNumber: LM3485Q1MM; Manufacturer: National Semiconductor; PackageTopMarking: ZXTT*SVJB; PowerWise: N; CompType: MiscPower; Published: 29-May-2009; DatasheetVersion: Sep-2009; PackageVersion: revF, Apr-2008; PackageReference: MUA08A; Publisher: Altium Limited; PackageDescription: MINI SOIC, .118 x .118 x .034in, 8 Lead, .0256in Pitch; RoHS: Y; PinCount: 8; Code_JEDEC: MO-187-AA; ComponentLink1Description: LM3485 Datasheet; ComponentLink1URL: http://www.national.com/ds/LM/LM3485.pdf; ComponentLink2Description: LM3485 Web Page; ComponentLink2URL: http://www.national.com/mpf/LM/LM3485.html; ComponentLink3Description: MUA08A Package Page; ComponentLink3URL: http://www.national.com/packaging/folders/mua08a.html
footprint MUA08A_N (TSOP, 8-Leads, Body 3x3mm, Pitch 0.65mm, IPC Medium Density)
footprint MUA08A_L (TSOP, 8-Leads, Body 3x3mm, Pitch 0.65mm, IPC High Density)
footprint MUA08A_M (TSOP, 8-Leads, Body 3x3mm, Pitch 0.65mm, IPC Low Density)
pins: 1 ISEN (in), 2 GND (power), 3 NC, 4 FB (in), 5 ADJ (in), 6 PGND (power), 7 PGATE (out), 8 VIN (power)

## LM3488MM
designator U?
High Efficiency Low-Side N-Channel Controller for Switching Regulator, 8-pin MSOP; PartNumber: LM3488MM; Manufacturer: National Semiconductor; PackageTopMarking: ZXTT*S21B; PowerWise: N; CompType: MiscPower; Published: 4-Dec-2008; DatasheetVersion: Mar-2009; PackageVersion: revF, Apr-2008; PackageReference: MUA08A; Publisher: Altium Limited; PackageDescription: MINI SOIC, .118 x .118 x .034in, 8 Lead, .0256in Pitch; Supplier 1: Farnell; Supplier Part Number 1: 9778888; Supplier 2: Farnell; Supplier Part Number 2: 9778888RL; RoHS: N; PinCount: 8; Code_JEDEC: MO-187-AA; ComponentLink1Description: LM3488 Datasheet; ComponentLink1URL: http://www.national.com/ds/LM/LM3488.pdf; ComponentLink2Description: LM3488 Web Page; ComponentLink2URL: http://www.national.com/pf/LM/LM3488.html; ComponentLink3Description: MUA08A Package Page; ComponentLink3URL: http://www.national.com/packaging/folders/mua08a.html
footprint MUA08A_N (TSOP, 8-Leads, Body 3x3mm, Pitch 0.65mm, IPC Medium Density)
footprint MUA08A_L (TSOP, 8-Leads, Body 3x3mm, Pitch 0.65mm, IPC High Density)
footprint MUA08A_M (TSOP, 8-Leads, Body 3x3mm, Pitch 0.65mm, IPC Low Density)
pins: 1 ISEN (in), 2 COMP, 3 FB (in), 4 AGND (power), 5 PGND (power), 6 DR (out), 7 FA/SYNC/SD (in), 8 VIN (power)

## LM3488MM/NOPB
designator U?
High Efficiency Low-Side N-Channel Controller for Switching Regulators, 8-pin MSOP, Pb-Free; PartNumber: LM3488MM/NOPB; Manufacturer: National Semiconductor; PackageTopMarking: ZXTT*S21B; PowerWise: N; CompType: MiscPower; Published: 1-Mar-2010; DatasheetVersion: Mar-2009; PackageVersion: revF, Apr-2008; PackageReference: MUA08A; Publisher: Altium Limited; PackageDescription: MINI SOIC, .118 x .118 x .034in, 8 Lead, .0256in Pitch; Supplier 1: Digi-Key; Supplier Part Number 1: LM3488MMTR-ND; Supplier 2: Digi-Key; Supplier Part Number 2: LM3488MMCT-ND; Supplier 3: Digi-Key; Supplier Part Number 3: LM3488MMDKR-ND; Supplier 4: Farnell; Supplier Part Number 4: 1469252; RoHS: Y; PinCount: 8; Code_JEDEC: MO-187-AA; ComponentLink1Description: LM3488 Datasheet; ComponentLink1URL: http://www.national.com/ds/LM/LM3488.pdf; ComponentLink2Description: LM3488 Web Page; ComponentLink2URL: http://www.national.com/pf/LM/LM3488.html; ComponentLink3Description: MUA08A Package Page; ComponentLink3URL: http://www.national.com/packaging/folders/mua08a.html
footprint MUA08A_N (TSOP, 8-Leads, Body 3x3mm, Pitch 0.65mm, IPC Medium Density)
footprint MUA08A_L (TSOP, 8-Leads, Body 3x3mm, Pitch 0.65mm, IPC High Density)
footprint MUA08A_M (TSOP, 8-Leads, Body 3x3mm, Pitch 0.65mm, IPC Low Density)
pins: 1 ISEN (in), 2 COMP, 3 FB (in), 4 AGND (power), 5 PGND (power), 6 DR (out), 7 FA/SYNC/SD (in), 8 VIN (power)

## LM3488MMX
designator U?
High Efficiency Low-Side N-Channel Controller for Switching Regulators, 8-pin MSOP; PartNumber: LM3488MMX; Manufacturer: National Semiconductor; PackageTopMarking: ZXTT*S21B; PowerWise: N; CompType: MiscPower; Published: 1-Mar-2010; DatasheetVersion: Mar-2009; PackageVersion: revF, Apr-2008; PackageReference: MUA08A; Publisher: Altium Limited; PackageDescription: MINI SOIC, .118 x .118 x .034in, 8 Lead, .0256in Pitch; RoHS: N; PinCount: 8; Code_JEDEC: MO-187-AA; ComponentLink1Description: LM3488 Datasheet; ComponentLink1URL: http://www.national.com/ds/LM/LM3488.pdf; ComponentLink2Description: LM3488 Web Page; ComponentLink2URL: http://www.national.com/pf/LM/LM3488.html; ComponentLink3Description: MUA08A Package Page; ComponentLink3URL: http://www.national.com/packaging/folders/mua08a.html
footprint MUA08A_N (TSOP, 8-Leads, Body 3x3mm, Pitch 0.65mm, IPC Medium Density)
footprint MUA08A_L (TSOP, 8-Leads, Body 3x3mm, Pitch 0.65mm, IPC High Density)
footprint MUA08A_M (TSOP, 8-Leads, Body 3x3mm, Pitch 0.65mm, IPC Low Density)
pins: 1 ISEN (in), 2 COMP, 3 FB (in), 4 AGND (power), 5 PGND (power), 6 DR (out), 7 FA/SYNC/SD (in), 8 VIN (power)

## LM3488QMM
designator U?
High Efficiency Low-Side N-Channel Controller for Switching Regulator, Automotive Grade 1, 8-pin MSOP; PartNumber: LM3488QMM; Manufacturer: National Semiconductor; PackageTopMarking: ZXTT*SSKB; PowerWise: N; CompType: MiscPower; Published: 29-May-2009; DatasheetVersion: Mar-2009; PackageVersion: revF, Apr-2008; PackageReference: MUA08A; Publisher: Altium Limited; PackageDescription: MINI SOIC, .118 x .118 x .034in, 8 Lead, .0256in Pitch; RoHS: Y; PinCount: 8; Code_JEDEC: MO-187-AA; ComponentLink1Description: LM3488 Datasheet; ComponentLink1URL: http://www.national.com/ds/LM/LM3488.pdf; ComponentLink2Description: LM3488 Web Page; ComponentLink2URL: http://www.national.com/mpf/LM/LM3488Q.html; ComponentLink3Description: MUA08A Package Page; ComponentLink3URL: http://www.national.com/packaging/folders/mua08a.html
footprint MUA08A_N (TSOP, 8-Leads, Body 3x3mm, Pitch 0.65mm, IPC Medium Density)
footprint MUA08A_L (TSOP, 8-Leads, Body 3x3mm, Pitch 0.65mm, IPC High Density)
footprint MUA08A_M (TSOP, 8-Leads, Body 3x3mm, Pitch 0.65mm, IPC Low Density)
pins: 1 ISEN (in), 2 COMP, 3 FB (in), 4 AGND (power), 5 PGND (power), 6 DR (out), 7 FA/SYNC/SD (in), 8 VIN (power)

## LM3488QMM/NOPB
designator U?
High Efficiency Low-Side N-Channel Controller for Switching Regulators, 8-pin MSOP, Pb-Free; PartNumber: LM3488QMM/NOPB; Manufacturer: National Semiconductor; PackageTopMarking: ZXTT*SSKB; PowerWise: N; CompType: MiscPower; Published: 1-Mar-2010; DatasheetVersion: Mar-2009; PackageVersion: revF, Apr-2008; PackageReference: MUA08A; Publisher: Altium Limited; PackageDescription: MINI SOIC, .118 x .118 x .034in, 8 Lead, .0256in Pitch; Supplier 1: Digi-Key; Supplier Part Number 1: LM3488QMMTR-ND; Supplier 2: Digi-Key; Supplier Part Number 2: LM3488QMMCT-ND; Supplier 3: Digi-Key; Supplier Part Number 3: LM3488QMMDKR-ND; RoHS: Y; PinCount: 8; Code_JEDEC: MO-187-AA; ComponentLink1Description: LM3488Q Datasheet; ComponentLink1URL: http://www.national.com/ds/LM/LM3488.pdf; ComponentLink2Description: LM3488Q Web Page; ComponentLink2URL: http://www.national.com/pf/LM/LM3488Q.html; ComponentLink3Description: MUA08A Package Page; ComponentLink3URL: http://www.national.com/packaging/folders/mua08a.html
footprint MUA08A_N (TSOP, 8-Leads, Body 3x3mm, Pitch 0.65mm, IPC Medium Density)
footprint MUA08A_L (TSOP, 8-Leads, Body 3x3mm, Pitch 0.65mm, IPC High Density)
footprint MUA08A_M (TSOP, 8-Leads, Body 3x3mm, Pitch 0.65mm, IPC Low Density)
pins: 1 ISEN (in), 2 COMP, 3 FB (in), 4 AGND (power), 5 PGND (power), 6 DR (out), 7 FA/SYNC/SD (in), 8 VIN (power)

## LM3488QMMX/NOPB
designator U?
High Efficiency Low-Side N-Channel Controller for Switching Regulators, 8-pin MSOP, Pb-Free; PartNumber: LM3488QMMX/NOPB; Manufacturer: National Semiconductor; PackageTopMarking: ZXTT*SSKB; PowerWise: N; CompType: MiscPower; Published: 1-Mar-2010; DatasheetVersion: Mar-2009; PackageVersion: revF, Apr-2008; PackageReference: MUA08A; Publisher: Altium Limited; PackageDescription: MINI SOIC, .118 x .118 x .034in, 8 Lead, .0256in Pitch; Supplier 1: Digi-Key; Supplier Part Number 1: LM3488QMMX-ND; RoHS: Y; PinCount: 8; Code_JEDEC: MO-187-AA; ComponentLink1Description: LM3488Q Datasheet; ComponentLink1URL: http://www.national.com/ds/LM/LM3488.pdf; ComponentLink2Description: LM3488Q Web Page; ComponentLink2URL: http://www.national.com/pf/LM/LM3488Q.html; ComponentLink3Description: MUA08A Package Page; ComponentLink3URL: http://www.national.com/packaging/folders/mua08a.html
footprint MUA08A_N (TSOP, 8-Leads, Body 3x3mm, Pitch 0.65mm, IPC Medium Density)
footprint MUA08A_L (TSOP, 8-Leads, Body 3x3mm, Pitch 0.65mm, IPC High Density)
footprint MUA08A_M (TSOP, 8-Leads, Body 3x3mm, Pitch 0.65mm, IPC Low Density)
pins: 1 ISEN (in), 2 COMP, 3 FB (in), 4 AGND (power), 5 PGND (power), 6 DR (out), 7 FA/SYNC/SD (in), 8 VIN (power)

## LM3492MH/NOPB
designator U?
Two-Channel Individual Dimmable LED Driver with Boost Converter and Fast Current Regulator, 20 pin TSSOP EXP PAD; PartNumber: LM3492MH/NOPB; Manufacturer: National Semiconductor; PackageTopMarking: NSUZXYTT*LM3492*MH; PowerWise: N; CompType: MiscPower; Published: 16-Nov-2010; DatasheetVersion: Oct-2010; PackageVersion: revC, Jul-2006; PackageReference: MXA20A; Publisher: Altium Limited; PackageDescription: Molded TSSOP, Jedec, 6.5 x 4.4 x 0.9mm Body, 20 Lead, 0.65mm Pitch, Exposed Pad; RoHS: Y; PinCount: 20; Code_JEDEC: MO-153-ACT; ComponentLink1Description: LM3492 Datasheet; ComponentLink1URL: http://www.national.com/ds/LM/LM3492.pdf; ComponentLink2Description: LM3492 Web Page; ComponentLink2URL: http://www.national.com/pf/LM/LM3492.html; ComponentLink3Description: MXA20A Package Page; ComponentLink3URL: http://www.national.com/packaging/folders/mxa20a.html
footprint MXA20A_N (TSOP, 20-Leads, Body 6.5x4.4mm, Pitch 0.65mm, Exposed Pad, IPC Medium Density)
footprint MXA20A_L (TSOP, 20-Leads, Body 6.5x4.4mm, Pitch 0.65mm, Exposed Pad, IPC High Density)
footprint MXA20A_M (TSOP, 20-Leads, Body 6.5x4.4mm, Pitch 0.65mm, Exposed Pad, IPC Low Density)
pins: 1 EN (in), 2 VIN (in), 3 SW (oc), 4 SW (oc), 5 VOUT (in), 6 RT, 7 FB (in), 8 GND (power), 9 IOUT2 (in), 10 IOUT1 (in), 11 CDHC, 12 IREF, 13 COMM (io), 14 LGND (power), 15 DIM1/CLK (in), 16 DIM2 (in), 17 PGND (power), 18 PGND (power), 19 VCC (power), 20 ILIM (in), 21 DAP (power)

## LM3492MHX/NOPB
designator U?
Two-Channel Individual Dimmable LED Driver with Boost Converter and Fast Current Regulator, 20 pin TSSOP EXP PAD; PartNumber: LM3492MHX/NOPB; Manufacturer: National Semiconductor; PackageTopMarking: NSUZXYTT*LM3492*MH; PowerWise: N; CompType: MiscPower; Published: 16-Nov-2010; DatasheetVersion: Oct-2010; PackageVersion: revC, Jul-2006; PackageReference: MXA20A; Publisher: Altium Limited; PackageDescription: Molded TSSOP, Jedec, 6.5 x 4.4 x 0.9mm Body, 20 Lead, 0.65mm Pitch, Exposed Pad; RoHS: Y; PinCount: 20; Code_JEDEC: MO-153-ACT; ComponentLink1Description: LM3492 Datasheet; ComponentLink1URL: http://www.national.com/ds/LM/LM3492.pdf; ComponentLink2Description: LM3492 Web Page; ComponentLink2URL: http://www.national.com/pf/LM/LM3492.html; ComponentLink3Description: MXA20A Package Page; ComponentLink3URL: http://www.national.com/packaging/folders/mxa20a.html
footprint MXA20A_N (TSOP, 20-Leads, Body 6.5x4.4mm, Pitch 0.65mm, Exposed Pad, IPC Medium Density)
footprint MXA20A_L (TSOP, 20-Leads, Body 6.5x4.4mm, Pitch 0.65mm, Exposed Pad, IPC High Density)
footprint MXA20A_M (TSOP, 20-Leads, Body 6.5x4.4mm, Pitch 0.65mm, Exposed Pad, IPC Low Density)
pins: 1 EN (in), 2 VIN (in), 3 SW (oc), 4 SW (oc), 5 VOUT (in), 6 RT, 7 FB (in), 8 GND (power), 9 IOUT2 (in), 10 IOUT1 (in), 11 CDHC, 12 IREF, 13 COMM (io), 14 LGND (power), 15 DIM1/CLK (in), 16 DIM2 (in), 17 PGND (power), 18 PGND (power), 19 VCC (power), 20 ILIM (in), 21 DAP (power)

## LM3500TL-16/NOPB
designator U?
Synchronous Step-up DC/DC Converter for White LED Applications, 8-pin Micro SMD, Pb-Free; PartNumber: LM3500TL-16/NOPB; Manufacturer: National Semiconductor; PackageTopMarking: XVS*I 18; PowerWise: N; CompType: MiscPower; Published: 1-Mar-2010; DatasheetVersion: Feb-2005; PackageVersion: revC, Jan-2004; PackageReference: TLA08SSA; Publisher: Altium Limited; PackageDescription: Thin Micro SMD, 8 Bump (Large), 0.5mm Pitch; Supplier 1: Digi-Key; Supplier Part Number 1: LM3500TL-16TR-ND; Supplier 2: Digi-Key; Supplier Part Number 2: LM3500TL-16CT-ND; Supplier 3: Digi-Key; Supplier Part Number 3: LM3500TL-16DKR-ND; RoHS: Y; PinCount: 8; Code_JEDEC: MO-211-DD; ComponentLink1Description: LM3500 Datasheet; ComponentLink1URL: http://www.national.com/ds/LM/LM3500.pdf; ComponentLink2Description: LM3500 Web Page; ComponentLink2URL: http://www.national.com/pf/LM/LM3500.html; ComponentLink3Description: TLA08SSA Package Page; ComponentLink3URL: http://www.national.com/packaging/folders/tla08ssa.html
footprint TLA08SSA (Micro SMD, 8-Leads, Body 1.92x1.92mm, Pitch 0.5mm, NSC Recommended)
pins: A1 AGND (power), A2 ~{SHDN} (in), A3 NC, B1 VIN (power), B3 FB (in), C1 VOUT (out), C2 VSW, C3 GND (power)

## LM3500TL-21/NOPB
designator U?
Synchronous Step-up DC/DC Converter for White LED Applications, 8-pin Micro SMD, Pb-Free; PartNumber: LM3500TL-21/NOPB; Manufacturer: National Semiconductor; PackageTopMarking: XVS*I 23; PowerWise: N; CompType: MiscPower; Published: 1-Mar-2010; DatasheetVersion: Feb-2005; PackageVersion: revC, Jan-2004; PackageReference: TLA08SSA; Publisher: Altium Limited; PackageDescription: Thin Micro SMD, 8 Bump (Large), 0.5mm Pitch; Supplier 1: Digi-Key; Supplier Part Number 1: LM3500TL-21TR-ND; Supplier 2: Digi-Key; Supplier Part Number 2: LM3500TL-21CT-ND; Supplier 3: Digi-Key; Supplier Part Number 3: LM3500TL-21DKR-ND; RoHS: Y; PinCount: 8; Code_JEDEC: MO-211-DD; ComponentLink1Description: LM3500 Datasheet; ComponentLink1URL: http://www.national.com/ds/LM/LM3500.pdf; ComponentLink2Description: LM3500 Web Page; ComponentLink2URL: http://www.national.com/pf/LM/LM3500.html; ComponentLink3Description: TLA08SSA Package Page; ComponentLink3URL: http://www.national.com/packaging/folders/tla08ssa.html
footprint TLA08SSA (Micro SMD, 8-Leads, Body 1.92x1.92mm, Pitch 0.5mm, NSC Recommended)
pins: A1 AGND (power), A2 ~{SHDN} (in), A3 NC, B1 VIN (power), B3 FB (in), C1 VOUT (out), C2 VSW, C3 GND (power)

## LM3500TLX-16/NOPB
designator U?
Synchronous Step-up DC/DC Converter for White LED Applications, 8-pin Micro SMD, Pb-Free; PartNumber: LM3500TLX-16/NOPB; Manufacturer: National Semiconductor; PackageTopMarking: XVS*I 18; PowerWise: N; CompType: MiscPower; Published: 1-Mar-2010; DatasheetVersion: Feb-2005; PackageVersion: revC, Jan-2004; PackageReference: TLA08SSA; Publisher: Altium Limited; PackageDescription: Thin Micro SMD, 8 Bump (Large), 0.5mm Pitch; Supplier 1: Digi-Key; Supplier Part Number 1: LM3500TLX-16-ND; RoHS: Y; PinCount: 8; Code_JEDEC: MO-211-DD; ComponentLink1Description: LM3500 Datasheet; ComponentLink1URL: http://www.national.com/ds/LM/LM3500.pdf; ComponentLink2Description: LM3500 Web Page; ComponentLink2URL: http://www.national.com/pf/LM/LM3500.html; ComponentLink3Description: TLA08SSA Package Page; ComponentLink3URL: http://www.national.com/packaging/folders/tla08ssa.html
footprint TLA08SSA (Micro SMD, 8-Leads, Body 1.92x1.92mm, Pitch 0.5mm, NSC Recommended)
pins: A1 AGND (power), A2 ~{SHDN} (in), A3 NC, B1 VIN (power), B3 FB (in), C1 VOUT (out), C2 VSW, C3 GND (power)

## LM3500TLX-21/NOPB
designator U?
Synchronous Step-up DC/DC Converter for White LED Applications, 8-pin Micro SMD, Pb-Free; PartNumber: LM3500TLX-21/NOPB; Manufacturer: National Semiconductor; PackageTopMarking: XVS*I 23; PowerWise: N; CompType: MiscPower; Published: 1-Mar-2010; DatasheetVersion: Feb-2005; PackageVersion: revC, Jan-2004; PackageReference: TLA08SSA; Publisher: Altium Limited; PackageDescription: Thin Micro SMD, 8 Bump (Large), 0.5mm Pitch; Supplier 1: Digi-Key; Supplier Part Number 1: LM3500TLX-21-ND; RoHS: Y; PinCount: 8; Code_JEDEC: MO-211-DD; ComponentLink1Description: LM3500 Datasheet; ComponentLink1URL: http://www.national.com/ds/LM/LM3500.pdf; ComponentLink2Description: LM3500 Web Page; ComponentLink2URL: http://www.national.com/pf/LM/LM3500.html; ComponentLink3Description: TLA08SSA Package Page; ComponentLink3URL: http://www.national.com/packaging/folders/tla08ssa.html
footprint TLA08SSA (Micro SMD, 8-Leads, Body 1.92x1.92mm, Pitch 0.5mm, NSC Recommended)
pins: A1 AGND (power), A2 ~{SHDN} (in), A3 NC, B1 VIN (power), B3 FB (in), C1 VOUT (out), C2 VSW, C3 GND (power)